# EAGLE library part PIN_HEADER_2X3 (library midi)
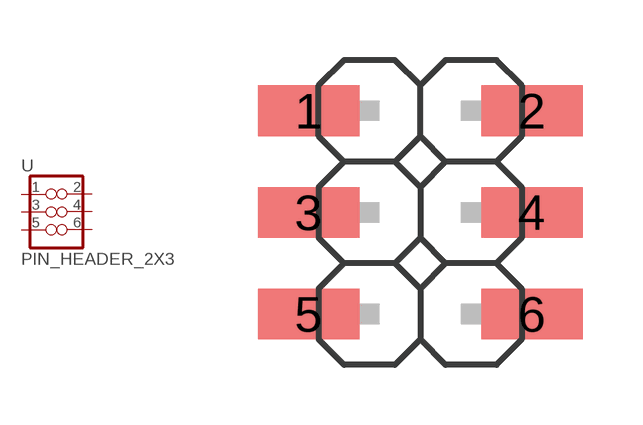
[diagram p0: symbol with the pads of PINH_2X3_SMD; footprint PINH_2X3_SMD]

Designator prefix -

## PIN_HEADER_2X3  [PINH_2X3_SMD]
1  1  pas
2  2  pas
3  3  pas
4  4  pas
5  5  pas
6  6  pas

## Footprint PINH_2X3_SMD (pad centres in mm)
smd 2.54 x 1.27: 1 -2.794,2.54; 2 2.794,2.54; 3 -2.794,0; 4 2.794,0; 5 -2.794,-2.54; 6 2.794,-2.54